# EAGLE library part TLC5540 (library STM32-PROX)
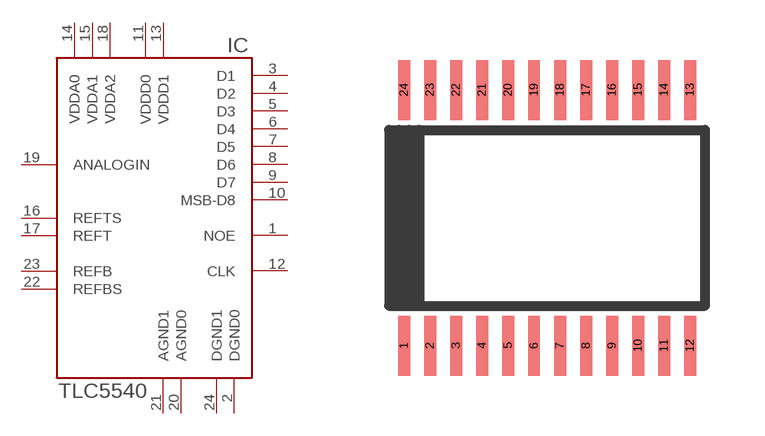
[diagram p11: symbol with the pads of TSSOP-24; footprint TSSOP-24]

Designator prefix IC

## TLC5540  [TSSOP-24]
1  NOE
2  DGND0
3  D1
4  D2
5  D3
6  D4
7  D5
8  D6
9  D7
10  MSB-D8
11  VDDD0
12  CLK
13  VDDD1
14  VDDA0
15  VDDA1
16  REFTS
17  REFT
18  VDDA2
19  ANALOGIN
20  AGND0
21  AGND1
22  REFBS
23  REFB
24  DGND1

## Footprint TSSOP-24 (pad centres in mm)
smd 0.3 x 1.5: 1 -2.925,-3.2; 2 -2.275,-3.2; 3 -1.625,-3.2; 4 -0.975,-3.2; 5 -0.325,-3.2; 6 0.325,-3.2; 7 0.975,-3.2; 8 1.625,-3.2; 9 2.275,-3.2; 10 2.925,-3.2; 11 3.575,-3.2; 12 4.225,-3.2; 13 4.225,3.2; 14 3.575,3.2; 15 2.925,3.2; 16 2.275,3.2; 17 1.625,3.2; 18 0.975,3.2; 19 0.325,3.2; 20 -0.325,3.2; 21 -0.975,3.2; 22 -1.625,3.2; 23 -2.275,3.2; 24 -2.925,3.2